# EAGLE library part HSMS-285P (library avago)
Surface Mount Microwave Schottky Detector Diodes Bridge Quad Source: Data sheet <http://www.farnell.com/datasheets/461166.pdf>
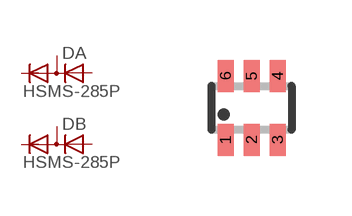
[diagram p1: symbol with the pads of SOT363; footprint SOT363]

Designator prefix D; gates A=KA2KA B=KA2KA

## HSMS-285P  [SOT363]
1  A:A  pas
2  A:AC  pas
3  A:C  pas
4  B:C  pas
5  B:AC  pas
6  B:A  pas

## Footprint SOT363 (pad centres in mm)
SOT-363 (SC-706 Lead) Source: Data sheet <http://www.farnell.com/datasheets/461166.pdf>
smd 0.4 x 0.8: 1 -0.65,-0.8; 2 0,-0.8; 3 0.65,-0.8; 4 0.65,0.8; 5 0,0.8; 6 -0.65,0.8